# EAGLE library part SPECIALTY-LEDS_IN-P55QSTGRGBW (library P-LED-0005-V1A EAGLE Library)
The IN-P55QSTGRGBW is PLCC8 Slug 0.5w RGBW LED. It is a SMD type LED which can be used in various applications.
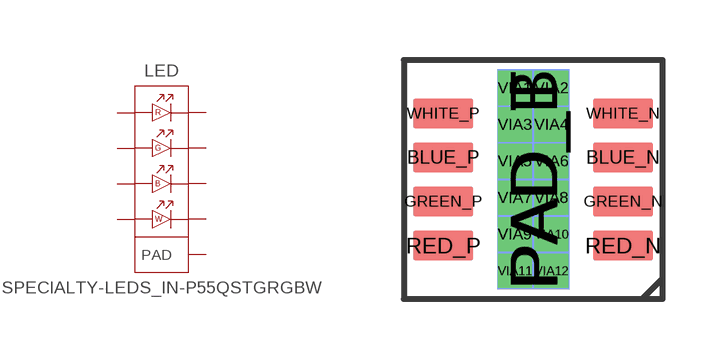
[diagram p0: symbol with the pads of SPECIALTY-LEDS_IN-P55QSTGRGBW_FR4; footprint SPECIALTY-LEDS_IN-P55QSTGRGBW_FR4]

Designator prefix LED

## SPECIALTY-LEDS_IN-P55QSTGRGBWFR4  [SPECIALTY-LEDS_IN-P55QSTGRGBW_FR4]
BLUE_N  BLUE_N  out
BLUE_P  BLUE_P  in
GREEN_N  GREEN_N  out
GREEN_P  GREEN_P  in
PAD_B  PAD  pas
PAD_T  PAD  pas
RED_N  RED_N  out
RED_P  RED_P  in
VIA1  PAD  pas
VIA2  PAD  pas
VIA3  PAD  pas
VIA4  PAD  pas
VIA5  PAD  pas
VIA6  PAD  pas
VIA7  PAD  pas
VIA8  PAD  pas
VIA9  PAD  pas
VIA10  PAD  pas
VIA11  PAD  pas
VIA12  PAD  pas
WHITE_N  WHITE_N  out
WHITE_P  WHITE_P  in

## Footprint SPECIALTY-LEDS_IN-P55QSTGRGBW_FR4 (pad centres in mm)
5.4mm x 5.0mm PLCC8 Slug RGBW LED with thermal pad. NOTE: Footprint assumes use of a multi-layer FR4 substrate PCB.
smd 1.5 x 0.75: BLUE_N 2.25,0.55; BLUE_P -2.25,0.55; GREEN_N 2.25,-0.55; GREEN_P -2.25,-0.55; RED_N 2.25,-1.65; RED_P -2.25,-1.65; WHITE_N 2.25,1.65; WHITE_P -2.25,1.65
smd 1.8 x 5.5 bottom: PAD_B 0,0
smd 1.8 x 5.5: PAD_T 0,0
drill 0.35 square: VIA1 -0.457,2.286; VIA2 0.457,2.286; VIA3 -0.457,1.372; VIA4 0.457,1.372; VIA5 -0.457,0.457; VIA6 0.457,0.457; VIA7 -0.457,-0.457; VIA8 0.457,-0.457; VIA9 -0.457,-1.372; VIA10 0.457,-1.372; VIA11 -0.457,-2.286; VIA12 0.457,-2.286